# Altium schematic symbol library STM32L476RGT6.SchLib: 1 symbol
Pins are listed as number, name and electrical type; pins without a type are passive.

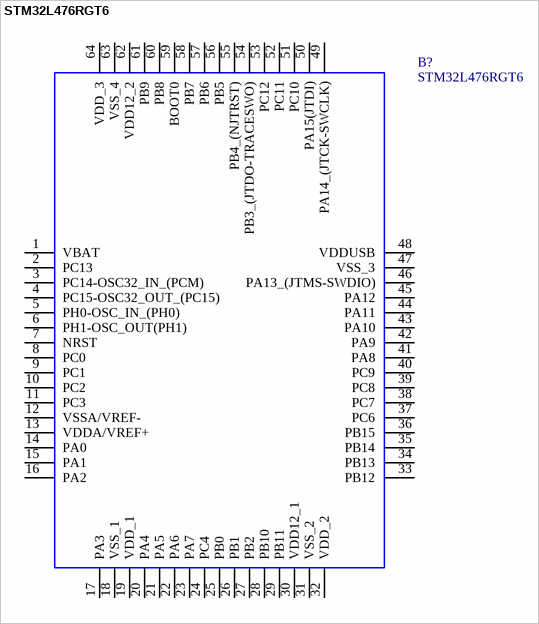
[diagram p0: symbol STM32L476RGT6]

## STM32L476RGT6
designator B?
ARM MCU 32-bit 80MHz 1024KB  LQFP64 STMicroelectronics STM32L476RGT6, 32bit ARM Cortex M4 MCU, 80MHz, 1 MB Flash, 64-Pin LQFP; Geometry.Height: 1.6mm; Manufacturer_Name: STMicroelectronics; Manufacturer_Part_Number: STM32L476RGT6; RS Part Number: 1658235; RS Price/Stock: http://uk.rs-online.com/web/p/products/1658235; Arrow Part Number: STM32L476RGT6; Arrow Price/Stock: https://www.arrow.com/en/products/stm32l476rgt6/stmicroelectronics; Datasheet Link: https://componentsearchengine.com/Datasheets/1/STM32L476RGT6.pdf
footprint QFP50P1200X1200X160-64N
pins: 1 VBAT, 2 PC13, 3 PC14-OSC32_IN_(PCM), 4 PC15-OSC32_OUT_(PC15), 5 PH0-OSC_IN_(PH0), 6 PH1-OSC_OUT(PH1), 7 NRST, 8 PC0, 9 PC1, 10 PC2, 11 PC3, 12 VSSA/VREF-, 13 VDDA/VREF+, 14 PA0, 15 PA1, 16 PA2, 17 PA3, 18 VSS_1, 19 VDD_1, 20 PA4, 21 PA5, 22 PA6, 23 PA7, 24 PC4, 25 PB0, 26 PB1, 27 PB2, 28 PB10, 29 PB11, 30 VDD12_1, 31 VSS_2, 32 VDD_2, 33 PB12, 34 PB13, 35 PB14, 36 PB15, 37 PC6, 38 PC7, 39 PC8, 40 PC9, 41 PA8, 42 PA9, 43 PA10, 44 PA11, 45 PA12, 46 PA13_(JTMS-SWDIO), 47 VSS_3, 48 VDDUSB, 49 PA14_(JTCK-SWCLK), 50 PA15(JTDI), 51 PC10, 52 PC11, 53 PC12, 54 PB3_(JTDO-TRACESWO), 55 PB4_(NJTRST), 56 PB5, 57 PB6, 58 PB7, 59 BOOT0, 60 PB8, 61 PB9, 62 VDD12_2, 63 VSS_4, 64 VDD_3